# EAGLE library part TXB0106 (library ti)
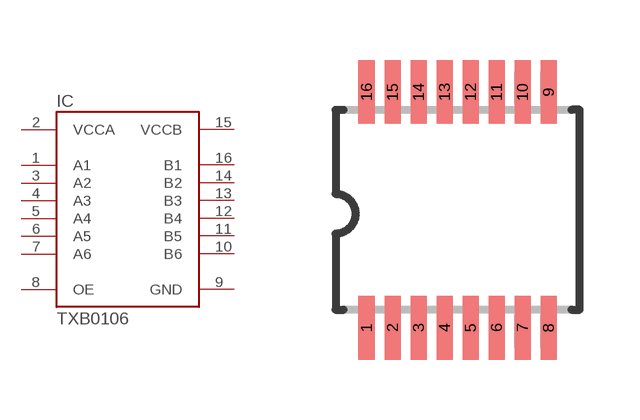
[diagram p2: symbol with the pads of TSSOP16; footprint TSSOP16]

Designator prefix IC

## TXB0106  [TSSOP16]
1  A1  hiz
2  VCCA  sup
3  A2  hiz
4  A3  hiz
5  A4  hiz
6  A5  hiz
7  A6  hiz
8  OE  in
9  GND  pwr
10  B6  hiz
11  B5  hiz
12  B4  hiz
13  B3  hiz
14  B2  hiz
15  VCCB  sup
16  B1  hiz

## Footprint TSSOP16 (pad centres in mm)
TSOP16 thin small outline package
smd 0.4 x 1.6: 1 -2.225,-2.85; 2 -1.575,-2.85; 3 -0.925,-2.85; 4 -0.275,-2.85; 5 0.375,-2.85; 6 1.025,-2.85; 7 1.675,-2.85; 8 2.325,-2.85; 9 2.325,3.05; 10 1.675,3.05; 11 1.025,3.05; 12 0.375,3.05; 13 -0.275,3.05; 14 -0.925,3.05; 15 -1.575,3.05; 16 -2.225,3.05